# Altium footprint library YIS160.PcbLib: 1 footprints
Each footprint in its own frame and in the unit in brackets; x right, y up, seen from the top. Pads: shape width x height; smd on the part's side, far side on the other; paste and mask are expansions set on the pad; w line width, h text height; cw(c..) or ccw(c..) is an arc to the next point about the centre after c.
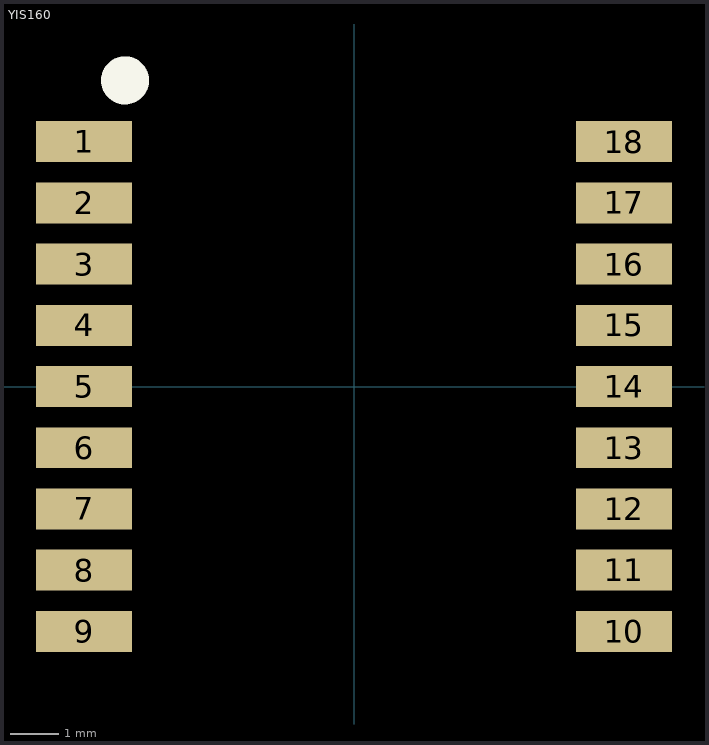
[diagram p0: the footprint, top view; thin cyan lines are the x and y axes]

## YIS160 [mm]
pads (18):
  rect 2x0.85 smd mask+0.051: 1(-5.6,5.08) 2(-5.6,3.81) 3(-5.6,2.54) 4(-5.6,1.27) 5(-5.6,0) 6(-5.6,-1.27) 7(-5.6,-2.54) 8(-5.6,-3.81) 9(-5.6,-5.08) 10(5.6,-5.08) 11(5.6,-3.81) 12(5.6,-2.54) 13(5.6,-1.27) 14(5.6,0) 15(5.6,1.27) 16(5.6,2.54) 17(5.6,3.81) 18(5.6,5.08)
Top Overlay:
  circle w0.5: c-4.75,6.35 r0.25
3D body: height 3.1, standoff 0, extent -5.9,-7.15 5.9,7.15